# EAGLE library part DS1031-08-2*7P8BS-4-1 (library connfly_DS1301)
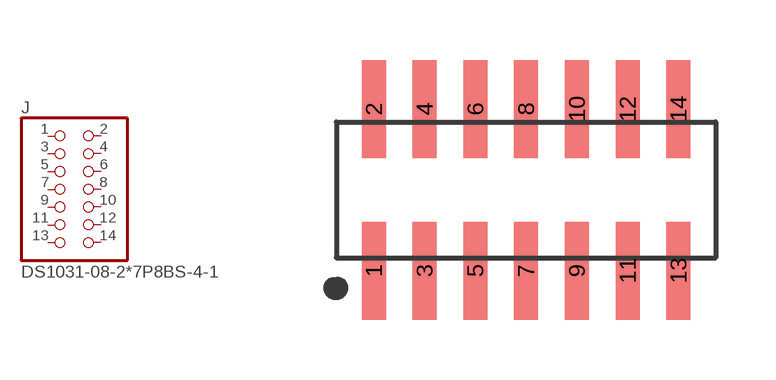
[diagram p0: symbol with the pads of 2*7P8BS-4-1; footprint 2*7P8BS-4-1]

Designator prefix J

## DS1031-08-27P8BS-4-12*7P8BS-4-1 (OC_TME: ZL322-2X7P)  [2*7P8BS-4-1]
1  1  pas
2  2  pas
3  3  pas
4  4  pas
5  5  pas
6  6  pas
7  7  pas
8  8  pas
9  9  pas
10  10  pas
11  11  pas
12  12  pas
13  13  pas
14  14  pas

## Footprint 2*7P8BS-4-1 (pad centres in mm)
smd 0.6 x 2.45: 1 0,-2.025; 2 0,2.025; 3 1.27,-2.025; 4 1.27,2.025; 5 2.54,-2.025; 6 2.54,2.025; 7 3.81,-2.025; 8 3.81,2.025; 9 5.08,-2.025; 10 5.08,2.025; 11 6.35,-2.025; 12 6.35,2.025; 13 7.62,-2.025; 14 7.62,2.025